# EAGLE library part INA118 (library OP)
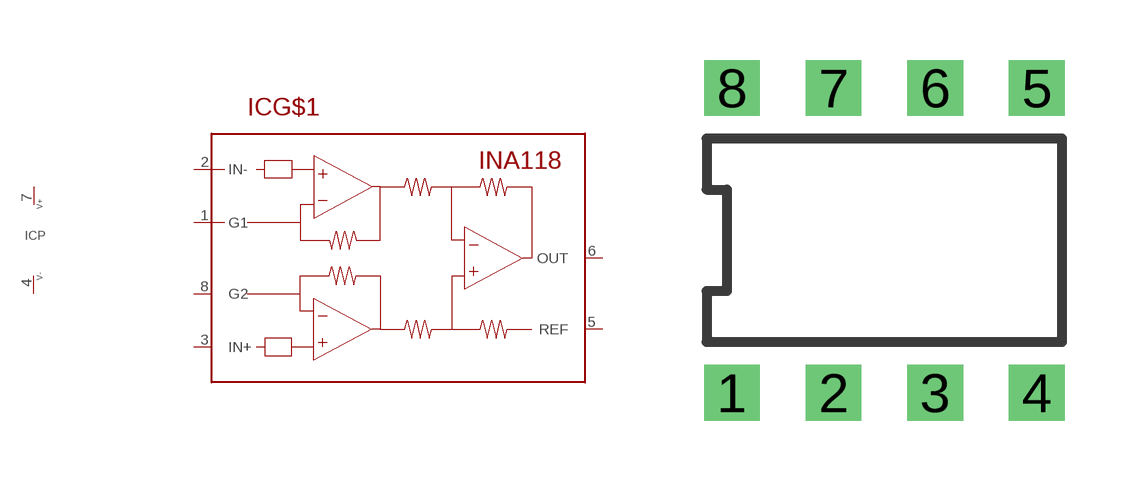
[diagram p2: symbol with the pads of DIL8; footprint DIL8]

Designator prefix IC; gates G$1=INA118 P=PWR+-04

## INA118  [DIL8]
1  G$1:G1  in
2  G$1:IN-  in
3  G$1:IN+  in
4  P:V-  pwr
5  G$1:REF  in
6  G$1:OUT  out
7  P:V+  pwr
8  G$1:G2  in

## Footprint DIL8 (pad centres in mm)
drill 0.8 pad 1.397 square: 1 0,0; 2 2.54,0; 3 5.08,0; 4 7.62,0; 5 7.62,7.62; 6 5.08,7.62; 7 2.54,7.62; 8 0,7.62